# EAGLE library part 691401710012 (library Wurth_Terminal_Blocks_Connectors_rev15d)
WR-TBL Terminal block - serie 401 5,0mm - Spring clamp/Screw less - horizontal entry - 12p Code:Con_TBL_Screwless_5.00_6914017100xxB_691401710012 <http://katalog.we-online.de/media/images/eican/Con_TBL_Screwless_5.00_6914017100xxB_pf2.jpg> Details see: http://katalog.we-online.de/en/em/691_401_710_0xx/691_401_710_012B?m Created 2014-12-22, aslant tao 2014 (C) Würth Elektronik
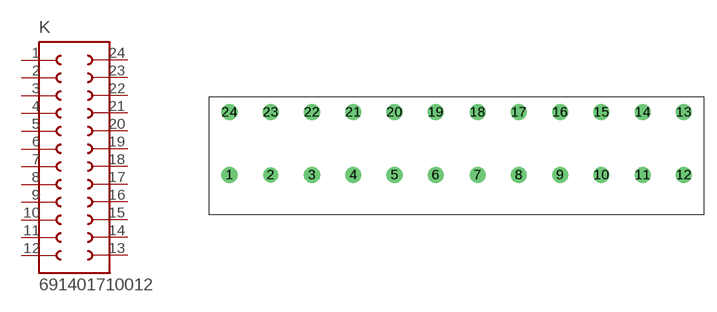
[diagram p241: symbol with the pads of 691401710012; footprint 691401710012]

Designator prefix K

## 691401710012  [691401710012]
1  1  pas
2  2  pas
3  3  pas
4  4  pas
5  5  pas
6  6  pas
7  7  pas
8  8  pas
9  9  pas
10  10  pas
11  11  pas
12  12  pas
13  13  pas
14  14  pas
15  15  pas
16  16  pas
17  17  pas
18  18  pas
19  19  pas
20  20  pas
21  21  pas
22  22  pas
23  23  pas
24  24  pas

## Footprint 691401710012 (pad centres in mm)
WR-TBL Serie 401 - 5.0mm Screwless Horizontal Entry - 2 mm2 Wires, 12 Pins
drill 1.3: 1 -29.76,-3.81; 3 -19.76,-3.81; 4 -14.76,-3.81; 5 -9.76,-3.81; 6 -4.76,-3.81; 7 0.32,-3.81; 8 5.32,-3.81; 9 10.32,-3.81; 10 15.32,-3.81; 11 20.32,-3.81; 12 25.32,-3.81; 13 25.32,3.81; 14 20.32,3.81; 15 15.32,3.81; 16 10.32,3.81; 17 5.32,3.81; 18 0.32,3.81; 19 -4.76,3.81; 20 -9.76,3.81; 21 -14.76,3.81; 22 -19.76,3.81; 23 -24.76,3.81; 24 -29.76,3.81
drill 1.2: 2 -24.76,-3.81